# Altium integrated library Xilinx Spartan-3A FPGA.IntLib: 452 symbols (part 3 of 3)
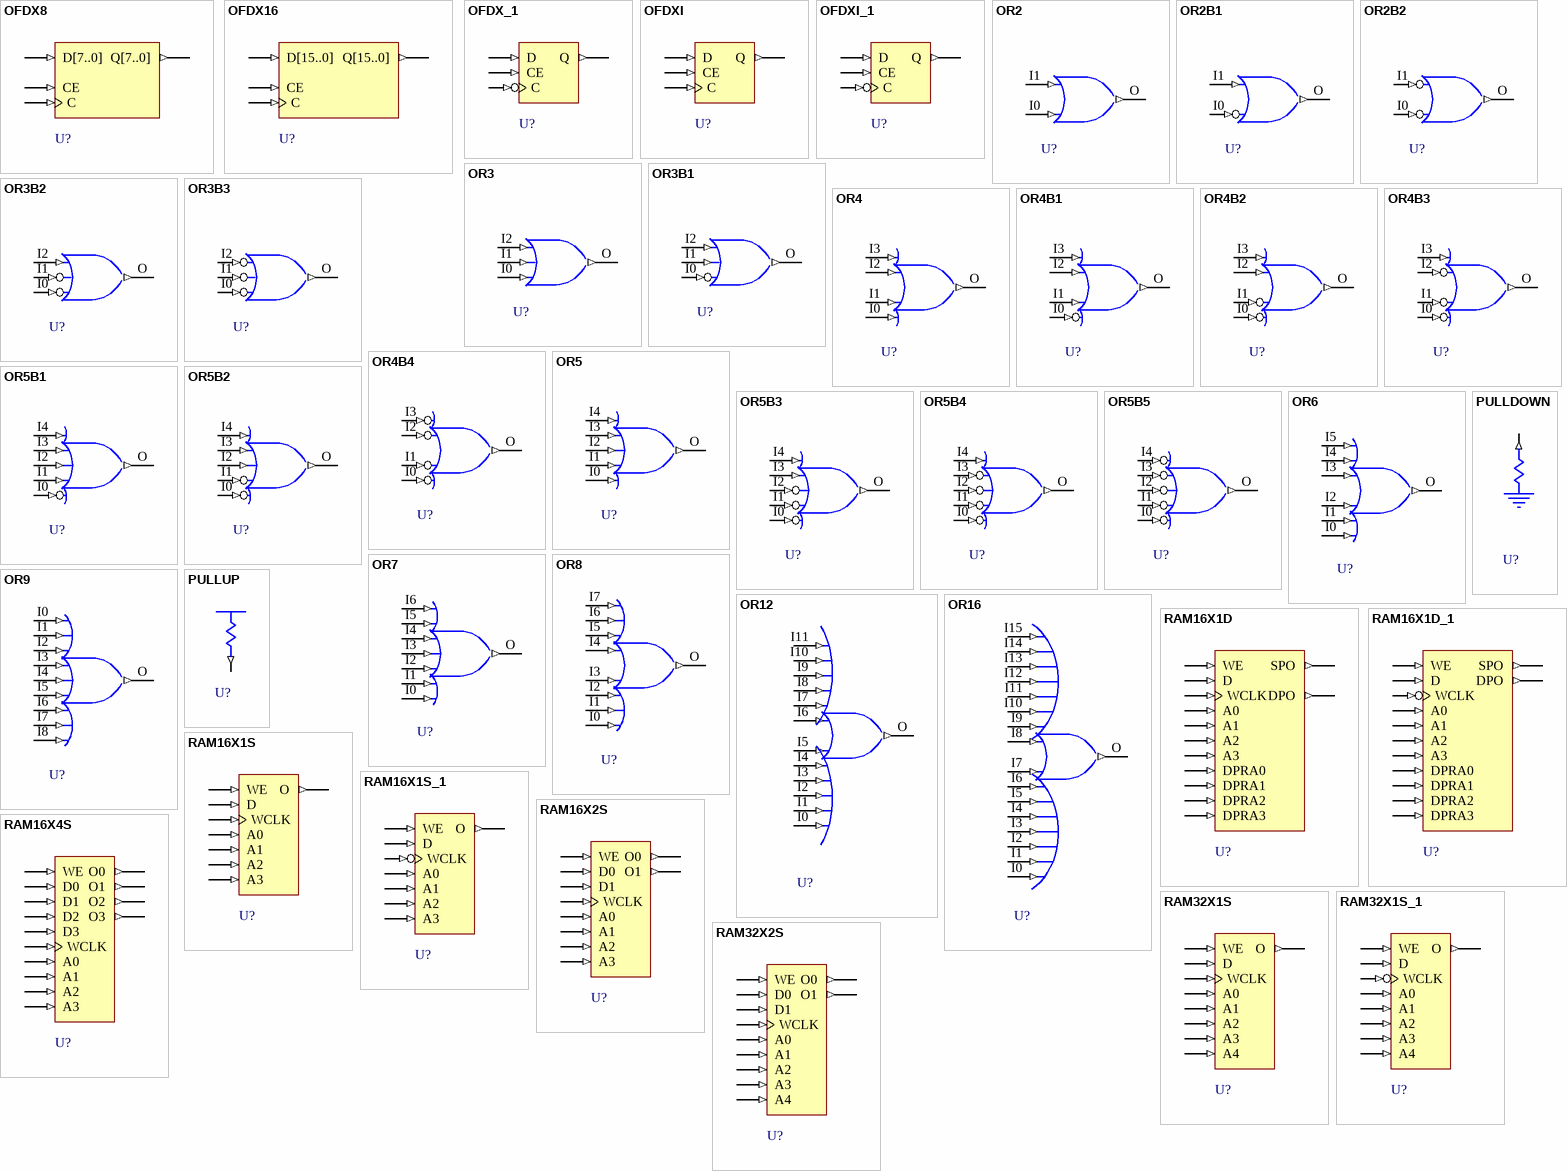
[diagram p13: symbols OFDX8 to RAM32X2S]

## RAM16X1D
designator U?
16-Deep by 1-Wide Static Dual Port Synchronous RAM; FPGAVendor: Xilinx; Published: 12-Jan-2007; Publisher: Altium Limited; HelpURL: http://toolbox.xilinx.com/docsan/xilinx82/books/docs/s3asc/s3asc.pdf
pins: A0 (in), A1 (in), A2 (in), A3 (in), D (in), DPO (out), DPRA0 (in), DPRA1 (in), DPRA2 (in), DPRA3 (in), SPO (out), WCLK (in), WE (in)

## RAM16X1D_1
designator U?
16-Deep by 1-Wide Static Dual Port Synchronous RAM with Negative-Edge Clock; FPGAVendor: Xilinx; Published: 12-Jan-2007; Publisher: Altium Limited; HelpURL: http://toolbox.xilinx.com/docsan/xilinx82/books/docs/s3asc/s3asc.pdf
pins: A0 (in), A1 (in), A2 (in), A3 (in), D (in), DPO (out), DPRA0 (in), DPRA1 (in), DPRA2 (in), DPRA3 (in), SPO (out), WCLK (in), WE (in)

## RAM16X1S
designator U?
16-Deep by 1-Wide Static Synchronous RAM; FPGAVendor: Xilinx; Published: 12-Jan-2007; Publisher: Altium Limited; HelpURL: http://toolbox.xilinx.com/docsan/xilinx82/books/docs/s3asc/s3asc.pdf
pins: A0 (in), A1 (in), A2 (in), A3 (in), D (in), O (out), WCLK (in), WE (in)

## RAM16X1S_1
designator U?
16-Deep by 1-Wide Static Synchronous RAM with Negative-Edge Clock; FPGAVendor: Xilinx; Published: 12-Jan-2007; Publisher: Altium Limited; HelpURL: http://toolbox.xilinx.com/docsan/xilinx82/books/docs/s3asc/s3asc.pdf
pins: A0 (in), A1 (in), A2 (in), A3 (in), D (in), O (out), WCLK (in), WE (in)

## RAM16X2S
designator U?
16-Deep by 2-Wide Static Synchronous RAM; FPGAVendor: Xilinx; Published: 12-Jan-2007; Publisher: Altium Limited; HelpURL: http://toolbox.xilinx.com/docsan/xilinx82/books/docs/s3asc/s3asc.pdf
pins: A0 (in), A1 (in), A2 (in), A3 (in), D0 (in), D1 (in), O0 (out), O1 (out), WCLK (in), WE (in)

## RAM16X4S
designator U?
16-Deep by 4-Wide Static Synchronous RAM; FPGAVendor: Xilinx; Published: 12-Jan-2007; Publisher: Altium Limited; HelpURL: http://toolbox.xilinx.com/docsan/xilinx82/books/docs/s3asc/s3asc.pdf
pins: A0 (in), A1 (in), A2 (in), A3 (in), D0 (in), D1 (in), D2 (in), D3 (in), O0 (out), O1 (out), O2 (out), O3 (out), WCLK (in), WE (in)

## RAM32X1S
designator U?
32-Deep by 1-Wide Static Synchronous RAM; FPGAVendor: Xilinx; Published: 12-Jan-2007; Publisher: Altium Limited; HelpURL: http://toolbox.xilinx.com/docsan/xilinx82/books/docs/s3asc/s3asc.pdf
pins: A0 (in), A1 (in), A2 (in), A3 (in), A4 (in), D (in), O (out), WCLK (in), WE (in)

## RAM32X1S_1
designator U?
32-Deep by 1-Wide Static Synchronous RAM with Negative-Edge Clock; FPGAVendor: Xilinx; Published: 12-Jan-2007; Publisher: Altium Limited; HelpURL: http://toolbox.xilinx.com/docsan/xilinx82/books/docs/s3asc/s3asc.pdf
pins: A0 (in), A1 (in), A2 (in), A3 (in), A4 (in), D (in), O (out), WCLK (in), WE (in)

## RAM32X2S
designator U?
32-Deep by 2-Wide Static Synchronous RAM; FPGAVendor: Xilinx; Published: 12-Jan-2007; Publisher: Altium Limited; HelpURL: http://toolbox.xilinx.com/docsan/xilinx82/books/docs/s3asc/s3asc.pdf
pins: A0 (in), A1 (in), A2 (in), A3 (in), A4 (in), D0 (in), D1 (in), O0 (out), O1 (out), WCLK (in), WE (in)

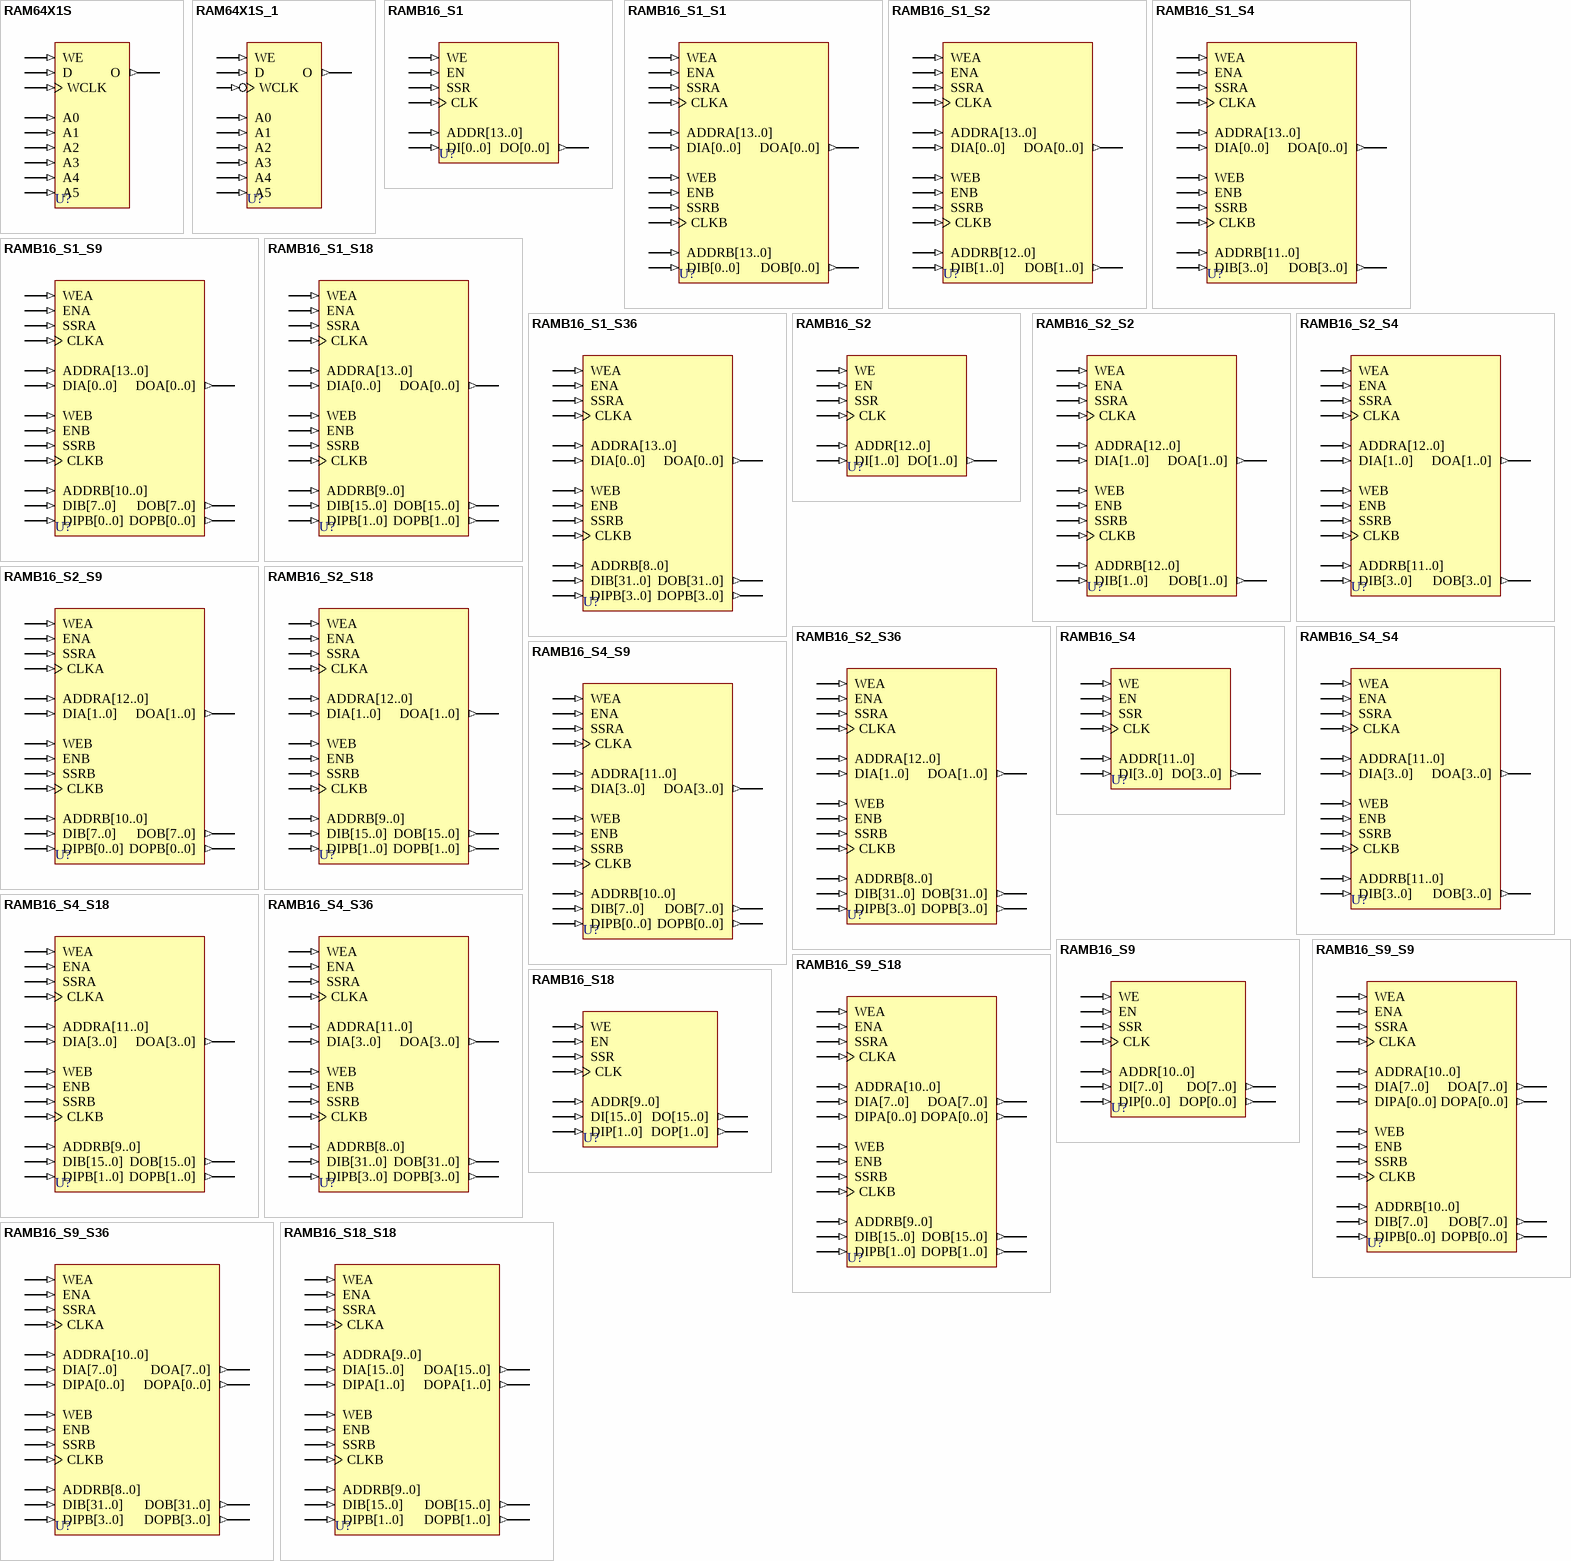
[diagram p9: symbols RAM64X1S to RAMB16_S18_S18]

## RAM64X1S
designator U?
64-Deep by 1-Wide Static Synchronous RAM; FPGAVendor: Xilinx; Published: 12-Jan-2007; Publisher: Altium Limited; HelpURL: http://toolbox.xilinx.com/docsan/xilinx82/books/docs/s3asc/s3asc.pdf
pins: A0 (in), A1 (in), A2 (in), A3 (in), A4 (in), A5 (in), D (in), O (out), WCLK (in), WE (in)

## RAM64X1S_1
designator U?
64-Deep by 1-Wide Static Synchronous RAM with Negative-Edge Clock; FPGAVendor: Xilinx; Published: 12-Jan-2007; Publisher: Altium Limited; HelpURL: http://toolbox.xilinx.com/docsan/xilinx82/books/docs/s3asc/s3asc.pdf
pins: A0 (in), A1 (in), A2 (in), A3 (in), A4 (in), A5 (in), D (in), O (out), WCLK (in), WE (in)

## RAMB16_S1
designator U?
16384-Bit Data Memory and 2048-Bit Parity Memory, Single-Port Synchronous Block RAM with Port Width 1 Bit.; FPGAVendor: Xilinx; Published: 12-Jan-2007; Publisher: Altium Limited; HelpURL: http://toolbox.xilinx.com/docsan/xilinx82/books/docs/s3asc/s3asc.pdf
pins: ADDR[13..0] (in), CLK (in), DI[0..0] (in), DO[0..0] (out), EN (in), SSR (in), WE (in)

## RAMB16_S1_S1
designator U?
16384-Bit Data Memory and 2048-Bit Parity Memory, Dual-Port Synchronous Block RAM with Port Widths configured to 1 Bit and 1 Bit.; FPGAVendor: Xilinx; Published: 12-Jan-2007; Publisher: Altium Limited; HelpURL: http://toolbox.xilinx.com/docsan/xilinx82/books/docs/s3asc/s3asc.pdf
pins: ADDRA[13..0] (in), ADDRB[13..0] (in), CLKA (in), CLKB (in), DIA[0..0] (in), DIB[0..0] (in), DOA[0..0] (out), DOB[0..0] (out), ENA (in), ENB (in), SSRA (in), SSRB (in), WEA (in), WEB (in)

## RAMB16_S1_S2
designator U?
16384-Bit Data Memory and 2048-Bit Parity Memory, Dual-Port Synchronous Block RAM with Port Widths configured to 1 Bit and 2 Bits.; FPGAVendor: Xilinx; Published: 12-Jan-2007; Publisher: Altium Limited; HelpURL: http://toolbox.xilinx.com/docsan/xilinx82/books/docs/s3asc/s3asc.pdf
pins: ADDRA[13..0] (in), ADDRB[12..0] (in), CLKA (in), CLKB (in), DIA[0..0] (in), DIB[1..0] (in), DOA[0..0] (out), DOB[1..0] (out), ENA (in), ENB (in), SSRA (in), SSRB (in), WEA (in), WEB (in)

## RAMB16_S1_S4
designator U?
16384-Bit Data Memory and 2048-Bit Parity Memory, Dual-Port Synchronous Block RAM with Port Widths configured to 1 Bit and 4 Bits.; FPGAVendor: Xilinx; Published: 12-Jan-2007; Publisher: Altium Limited; HelpURL: http://toolbox.xilinx.com/docsan/xilinx82/books/docs/s3asc/s3asc.pdf
pins: ADDRA[13..0] (in), ADDRB[11..0] (in), CLKA (in), CLKB (in), DIA[0..0] (in), DIB[3..0] (in), DOA[0..0] (out), DOB[3..0] (out), ENA (in), ENB (in), SSRA (in), SSRB (in), WEA (in), WEB (in)

## RAMB16_S1_S9
designator U?
16384-Bit Data Memory and 2048-Bit Parity Memory, Dual-Port Synchronous Block RAM with Port Widths configured to 1 Bit and 9 Bits.; FPGAVendor: Xilinx; Published: 12-Jan-2007; Publisher: Altium Limited; HelpURL: http://toolbox.xilinx.com/docsan/xilinx82/books/docs/s3asc/s3asc.pdf
pins: ADDRA[13..0] (in), ADDRB[10..0] (in), CLKA (in), CLKB (in), DIA[0..0] (in), DIB[7..0] (in), DIPB[0..0] (in), DOA[0..0] (out), DOB[7..0] (out), DOPB[0..0] (out), ENA (in), ENB (in), SSRA (in), SSRB (in), WEA (in), WEB (in)

## RAMB16_S1_S18
designator U?
16384-Bit Data Memory and 2048-Bit Parity Memory, Dual-Port Synchronous Block RAM with Port Widths configured to 1 Bit and 18 Bits.; FPGAVendor: Xilinx; Published: 12-Jan-2007; Publisher: Altium Limited; HelpURL: http://toolbox.xilinx.com/docsan/xilinx82/books/docs/s3asc/s3asc.pdf
pins: ADDRA[13..0] (in), ADDRB[9..0] (in), CLKA (in), CLKB (in), DIA[0..0] (in), DIB[15..0] (in), DIPB[1..0] (in), DOA[0..0] (out), DOB[15..0] (out), DOPB[1..0] (out), ENA (in), ENB (in), SSRA (in), SSRB (in), WEA (in), WEB (in)

## RAMB16_S1_S36
designator U?
16384-Bit Data Memory and 2048-Bit Parity Memory, Dual-Port Synchronous Block RAM with Port Widths configured to 1 Bit and 36 Bits.; FPGAVendor: Xilinx; Published: 12-Jan-2007; Publisher: Altium Limited; HelpURL: http://toolbox.xilinx.com/docsan/xilinx82/books/docs/s3asc/s3asc.pdf
pins: ADDRA[13..0] (in), ADDRB[8..0] (in), CLKA (in), CLKB (in), DIA[0..0] (in), DIB[31..0] (in), DIPB[3..0] (in), DOA[0..0] (out), DOB[31..0] (out), DOPB[3..0] (out), ENA (in), ENB (in), SSRA (in), SSRB (in), WEA (in), WEB (in)

## RAMB16_S2
designator U?
16384-Bit Data Memory and 2048-Bit Parity Memory, Single-Port Synchronous Block RAM with Port Width 2 Bits.; FPGAVendor: Xilinx; Published: 12-Jan-2007; Publisher: Altium Limited; HelpURL: http://toolbox.xilinx.com/docsan/xilinx82/books/docs/s3asc/s3asc.pdf
pins: ADDR[12..0] (in), CLK (in), DI[1..0] (in), DO[1..0] (out), EN (in), SSR (in), WE (in)

## RAMB16_S2_S2
designator U?
16384-Bit Data Memory and 2048-Bit Parity Memory, Dual-Port Synchronous Block RAM with Port Widths configured to 2 Bits and 2 Bits.; FPGAVendor: Xilinx; Published: 12-Jan-2007; Publisher: Altium Limited; HelpURL: http://toolbox.xilinx.com/docsan/xilinx82/books/docs/s3asc/s3asc.pdf
pins: ADDRA[12..0] (in), ADDRB[12..0] (in), CLKA (in), CLKB (in), DIA[1..0] (in), DIB[1..0] (in), DOA[1..0] (out), DOB[1..0] (out), ENA (in), ENB (in), SSRA (in), SSRB (in), WEA (in), WEB (in)

## RAMB16_S2_S4
designator U?
16384-Bit Data Memory and 2048-Bit Parity Memory, Dual-Port Synchronous Block RAM with Port Widths configured to 2 Bits and 4 Bits.; FPGAVendor: Xilinx; Published: 12-Jan-2007; Publisher: Altium Limited; HelpURL: http://toolbox.xilinx.com/docsan/xilinx82/books/docs/s3asc/s3asc.pdf
pins: ADDRA[12..0] (in), ADDRB[11..0] (in), CLKA (in), CLKB (in), DIA[1..0] (in), DIB[3..0] (in), DOA[1..0] (out), DOB[3..0] (out), ENA (in), ENB (in), SSRA (in), SSRB (in), WEA (in), WEB (in)

## RAMB16_S2_S9
designator U?
16384-Bit Data Memory and 2048-Bit Parity Memory, Dual-Port Synchronous Block RAM with Port Widths configured to 2 Bits and 9 Bits.; FPGAVendor: Xilinx; Published: 12-Jan-2007; Publisher: Altium Limited; HelpURL: http://toolbox.xilinx.com/docsan/xilinx82/books/docs/s3asc/s3asc.pdf
pins: ADDRA[12..0] (in), ADDRB[10..0] (in), CLKA (in), CLKB (in), DIA[1..0] (in), DIB[7..0] (in), DIPB[0..0] (in), DOA[1..0] (out), DOB[7..0] (out), DOPB[0..0] (out), ENA (in), ENB (in), SSRA (in), SSRB (in), WEA (in), WEB (in)

## RAMB16_S2_S18
designator U?
16384-Bit Data Memory and 2048-Bit Parity Memory, Dual-Port Synchronous Block RAM with Port Widths configured to 2 Bits and 18 Bits.; FPGAVendor: Xilinx; Published: 12-Jan-2007; Publisher: Altium Limited; HelpURL: http://toolbox.xilinx.com/docsan/xilinx82/books/docs/s3asc/s3asc.pdf
pins: ADDRA[12..0] (in), ADDRB[9..0] (in), CLKA (in), CLKB (in), DIA[1..0] (in), DIB[15..0] (in), DIPB[1..0] (in), DOA[1..0] (out), DOB[15..0] (out), DOPB[1..0] (out), ENA (in), ENB (in), SSRA (in), SSRB (in), WEA (in), WEB (in)

## RAMB16_S2_S36
designator U?
16384-Bit Data Memory and 2048-Bit Parity Memory, Dual-Port Synchronous Block RAM with Port Widths configured to 2 Bits and 36 Bits.; FPGAVendor: Xilinx; Published: 12-Jan-2007; Publisher: Altium Limited; HelpURL: http://toolbox.xilinx.com/docsan/xilinx82/books/docs/s3asc/s3asc.pdf
pins: ADDRA[12..0] (in), ADDRB[8..0] (in), CLKA (in), CLKB (in), DIA[1..0] (in), DIB[31..0] (in), DIPB[3..0] (in), DOA[1..0] (out), DOB[31..0] (out), DOPB[3..0] (out), ENA (in), ENB (in), SSRA (in), SSRB (in), WEA (in), WEB (in)

## RAMB16_S4
designator U?
16384-Bit Data Memory and 2048-Bit Parity Memory, Single-Port Synchronous Block RAM with Port Width 4 Bits.; FPGAVendor: Xilinx; Published: 12-Jan-2007; Publisher: Altium Limited; HelpURL: http://toolbox.xilinx.com/docsan/xilinx82/books/docs/s3asc/s3asc.pdf
pins: ADDR[11..0] (in), CLK (in), DI[3..0] (in), DO[3..0] (out), EN (in), SSR (in), WE (in)

## RAMB16_S4_S4
designator U?
16384-Bit Data Memory and 2048-Bit Parity Memory, Dual-Port Synchronous Block RAM with Port Widths configured to 4 Bits and 4 Bits.; FPGAVendor: Xilinx; Published: 12-Jan-2007; Publisher: Altium Limited; HelpURL: http://toolbox.xilinx.com/docsan/xilinx82/books/docs/s3asc/s3asc.pdf
pins: ADDRA[11..0] (in), ADDRB[11..0] (in), CLKA (in), CLKB (in), DIA[3..0] (in), DIB[3..0] (in), DOA[3..0] (out), DOB[3..0] (out), ENA (in), ENB (in), SSRA (in), SSRB (in), WEA (in), WEB (in)

## RAMB16_S4_S9
designator U?
16384-Bit Data Memory and 2048-Bit Parity Memory, Dual-Port Synchronous Block RAM with Port Widths configured to 4 Bits and 9 Bits.; FPGAVendor: Xilinx; Published: 12-Jan-2007; Publisher: Altium Limited; HelpURL: http://toolbox.xilinx.com/docsan/xilinx82/books/docs/s3asc/s3asc.pdf
pins: ADDRA[11..0] (in), ADDRB[10..0] (in), CLKA (in), CLKB (in), DIA[3..0] (in), DIB[7..0] (in), DIPB[0..0] (in), DOA[3..0] (out), DOB[7..0] (out), DOPB[0..0] (out), ENA (in), ENB (in), SSRA (in), SSRB (in), WEA (in), WEB (in)

## RAMB16_S4_S18
designator U?
16384-Bit Data Memory and 2048-Bit Parity Memory, Dual-Port Synchronous Block RAM with Port Widths configured to 4 Bits and 18 Bits.; FPGAVendor: Xilinx; Published: 12-Jan-2007; Publisher: Altium Limited; HelpURL: http://toolbox.xilinx.com/docsan/xilinx82/books/docs/s3asc/s3asc.pdf
pins: ADDRA[11..0] (in), ADDRB[9..0] (in), CLKA (in), CLKB (in), DIA[3..0] (in), DIB[15..0] (in), DIPB[1..0] (in), DOA[3..0] (out), DOB[15..0] (out), DOPB[1..0] (out), ENA (in), ENB (in), SSRA (in), SSRB (in), WEA (in), WEB (in)

## RAMB16_S4_S36
designator U?
16384-Bit Data Memory and 2048-Bit Parity Memory, Dual-Port Synchronous Block RAM with Port Widths configured to 4 Bits and 36 Bits.; FPGAVendor: Xilinx; Published: 12-Jan-2007; Publisher: Altium Limited; HelpURL: http://toolbox.xilinx.com/docsan/xilinx82/books/docs/s3asc/s3asc.pdf
pins: ADDRA[11..0] (in), ADDRB[8..0] (in), CLKA (in), CLKB (in), DIA[3..0] (in), DIB[31..0] (in), DIPB[3..0] (in), DOA[3..0] (out), DOB[31..0] (out), DOPB[3..0] (out), ENA (in), ENB (in), SSRA (in), SSRB (in), WEA (in), WEB (in)

## RAMB16_S9
designator U?
16384-Bit Data Memory and 2048-Bit Parity Memory, Single-Port Synchronous Block RAM with Port Width 9 Bits.; FPGAVendor: Xilinx; Published: 12-Jan-2007; Publisher: Altium Limited; HelpURL: http://toolbox.xilinx.com/docsan/xilinx82/books/docs/s3asc/s3asc.pdf
pins: ADDR[10..0] (in), CLK (in), DI[7..0] (in), DIP[0..0] (in), DO[7..0] (out), DOP[0..0] (out), EN (in), SSR (in), WE (in)

## RAMB16_S9_S9
designator U?
16384-Bit Data Memory and 2048-Bit Parity Memory, Dual-Port Synchronous Block RAM with Port Widths configured to 9 Bits and 9 Bits.; FPGAVendor: Xilinx; Published: 12-Jan-2007; Publisher: Altium Limited; HelpURL: http://toolbox.xilinx.com/docsan/xilinx82/books/docs/s3asc/s3asc.pdf
pins: ADDRA[10..0] (in), ADDRB[10..0] (in), CLKA (in), CLKB (in), DIA[7..0] (in), DIB[7..0] (in), DIPA[0..0] (in), DIPB[0..0] (in), DOA[7..0] (out), DOB[7..0] (out), DOPA[0..0] (out), DOPB[0..0] (out), ENA (in), ENB (in), SSRA (in), SSRB (in), WEA (in), WEB (in)

## RAMB16_S9_S18
designator U?
16384-Bit Data Memory and 2048-Bit Parity Memory, Dual-Port Synchronous Block RAM with Port Widths configured to 9 Bits and 18 Bits.; FPGAVendor: Xilinx; Published: 12-Jan-2007; Publisher: Altium Limited; HelpURL: http://toolbox.xilinx.com/docsan/xilinx82/books/docs/s3asc/s3asc.pdf
pins: ADDRA[10..0] (in), ADDRB[9..0] (in), CLKA (in), CLKB (in), DIA[7..0] (in), DIB[15..0] (in), DIPA[0..0] (in), DIPB[1..0] (in), DOA[7..0] (out), DOB[15..0] (out), DOPA[0..0] (out), DOPB[1..0] (out), ENA (in), ENB (in), SSRA (in), SSRB (in), WEA (in), WEB (in)

## RAMB16_S9_S36
designator U?
16384-Bit Data Memory and 2048-Bit Parity Memory, Dual-Port Synchronous Block RAM with Port Widths configured to 9 Bits and 36 Bits.; FPGAVendor: Xilinx; Published: 12-Jan-2007; Publisher: Altium Limited; HelpURL: http://toolbox.xilinx.com/docsan/xilinx82/books/docs/s3asc/s3asc.pdf
pins: ADDRA[10..0] (in), ADDRB[8..0] (in), CLKA (in), CLKB (in), DIA[7..0] (in), DIB[31..0] (in), DIPA[0..0] (in), DIPB[3..0] (in), DOA[7..0] (out), DOB[31..0] (out), DOPA[0..0] (out), DOPB[3..0] (out), ENA (in), ENB (in), SSRA (in), SSRB (in), WEA (in), WEB (in)

## RAMB16_S18
designator U?
16384-Bit Data Memory and 2048-Bit Parity Memory, Single-Port Synchronous Block RAM with Port Width 18 Bits.; FPGAVendor: Xilinx; Published: 12-Jan-2007; Publisher: Altium Limited; HelpURL: http://toolbox.xilinx.com/docsan/xilinx82/books/docs/s3asc/s3asc.pdf
pins: ADDR[9..0] (in), CLK (in), DI[15..0] (in), DIP[1..0] (in), DO[15..0] (out), DOP[1..0] (out), EN (in), SSR (in), WE (in)

## RAMB16_S18_S18
designator U?
16384-Bit Data Memory and 2048-Bit Parity Memory, Dual-Port Synchronous Block RAM with Port Widths configured to 18 Bits and 18 Bits.; FPGAVendor: Xilinx; Published: 12-Jan-2007; Publisher: Altium Limited; HelpURL: http://toolbox.xilinx.com/docsan/xilinx82/books/docs/s3asc/s3asc.pdf
pins: ADDRA[9..0] (in), ADDRB[9..0] (in), CLKA (in), CLKB (in), DIA[15..0] (in), DIB[15..0] (in), DIPA[1..0] (in), DIPB[1..0] (in), DOA[15..0] (out), DOB[15..0] (out), DOPA[1..0] (out), DOPB[1..0] (out), ENA (in), ENB (in), SSRA (in), SSRB (in), WEA (in), WEB (in)

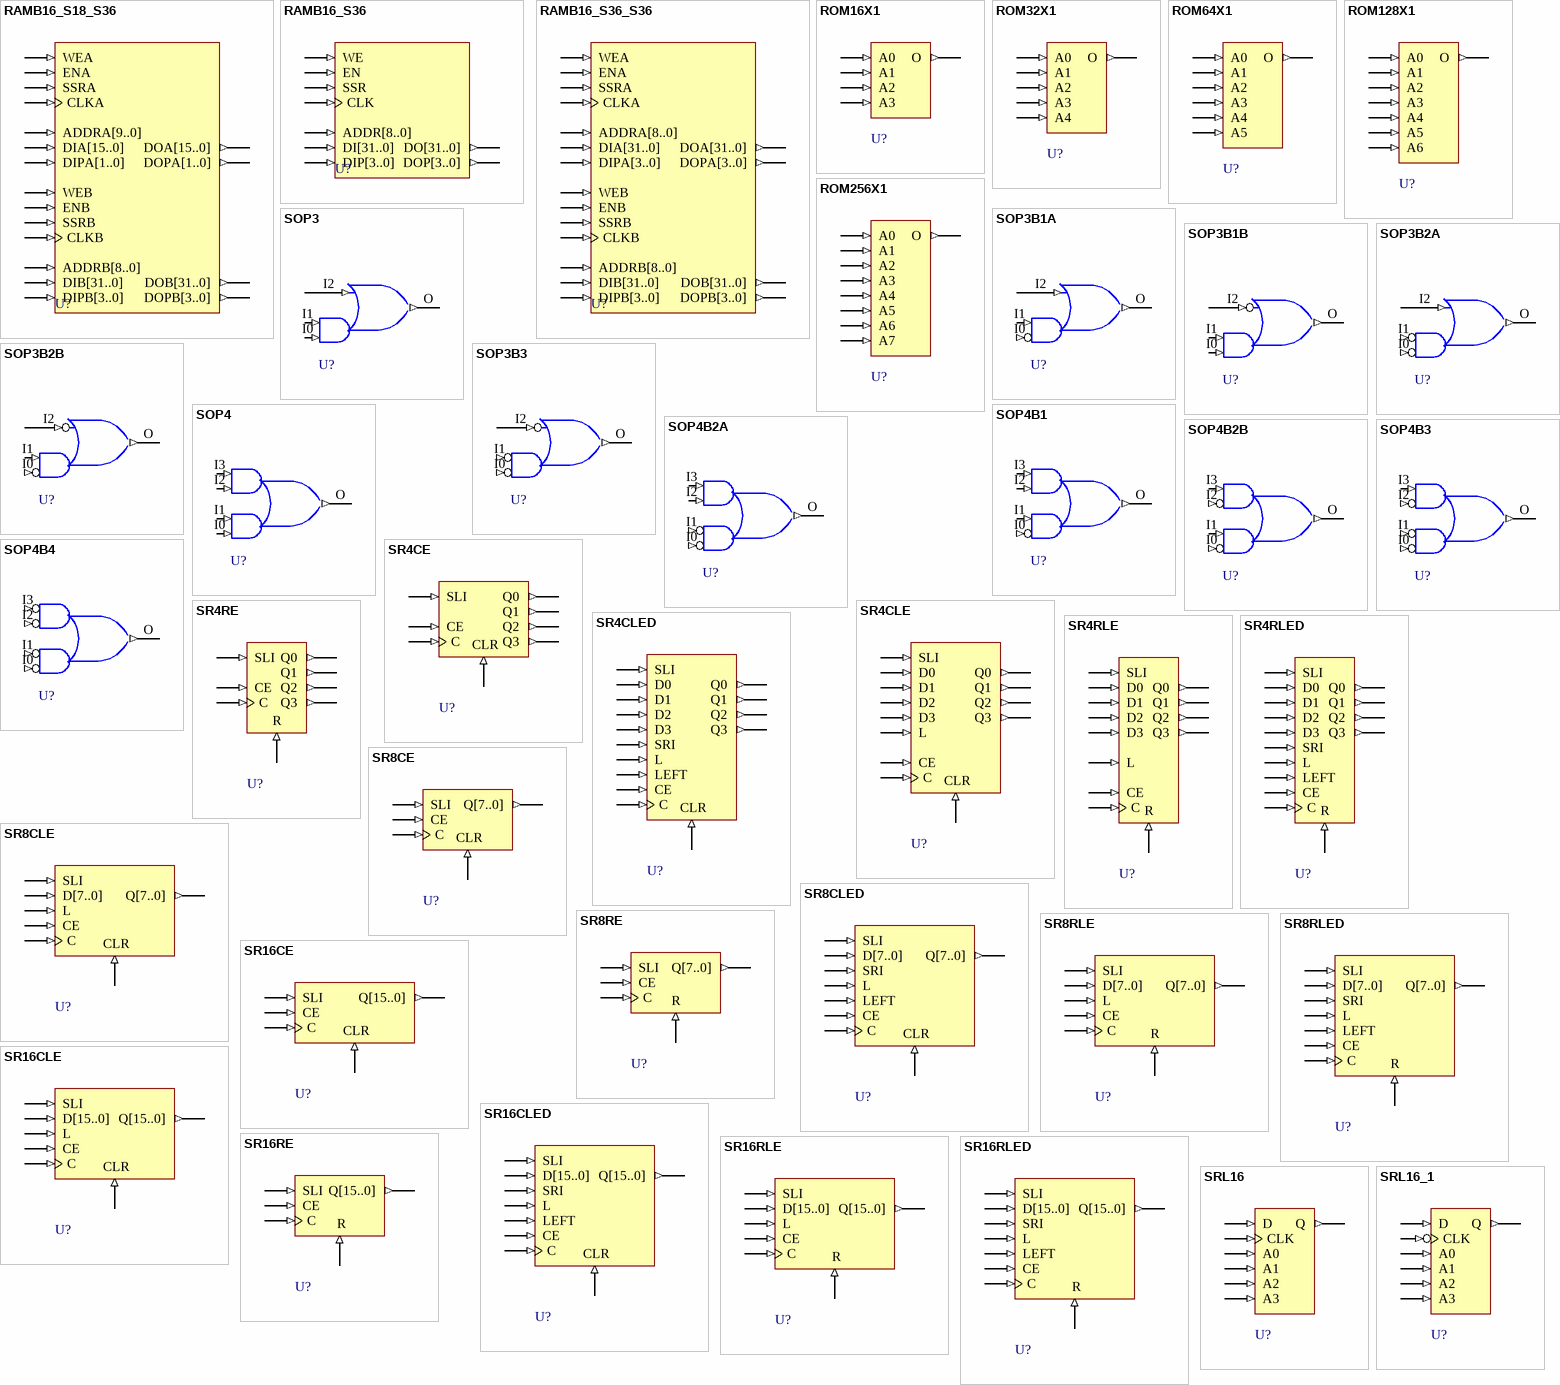
[diagram p10: symbols RAMB16_S18_S36 to SRL16_1]

## RAMB16_S18_S36
designator U?
16384-Bit Data Memory and 2048-Bit Parity Memory, Dual-Port Synchronous Block RAM with Port Widths configured to 18 Bits and 36 Bits.; FPGAVendor: Xilinx; Published: 12-Jan-2007; Publisher: Altium Limited; HelpURL: http://toolbox.xilinx.com/docsan/xilinx82/books/docs/s3asc/s3asc.pdf
pins: ADDRA[9..0] (in), ADDRB[8..0] (in), CLKA (in), CLKB (in), DIA[15..0] (in), DIB[31..0] (in), DIPA[1..0] (in), DIPB[3..0] (in), DOA[15..0] (out), DOB[31..0] (out), DOPA[1..0] (out), DOPB[3..0] (out), ENA (in), ENB (in), SSRA (in), SSRB (in), WEA (in), WEB (in)

## RAMB16_S36
designator U?
16384-Bit Data Memory and 2048-Bit Parity Memory, Single-Port Synchronous Block RAM with Port Width 36 Bits.; FPGAVendor: Xilinx; Published: 12-Jan-2007; Publisher: Altium Limited; HelpURL: http://toolbox.xilinx.com/docsan/xilinx82/books/docs/s3asc/s3asc.pdf
pins: ADDR[8..0] (in), CLK (in), DI[31..0] (in), DIP[3..0] (in), DO[31..0] (out), DOP[3..0] (out), EN (in), SSR (in), WE (in)

## RAMB16_S36_S36
designator U?
16384-Bit Data Memory and 2048-Bit Parity Memory, Dual-Port Synchronous Block RAM with Port Widths configured to 36 Bits and 36 Bits.; FPGAVendor: Xilinx; Published: 12-Jan-2007; Publisher: Altium Limited; HelpURL: http://toolbox.xilinx.com/docsan/xilinx82/books/docs/s3asc/s3asc.pdf
pins: ADDRA[8..0] (in), ADDRB[8..0] (in), CLKA (in), CLKB (in), DIA[31..0] (in), DIB[31..0] (in), DIPA[3..0] (in), DIPB[3..0] (in), DOA[31..0] (out), DOB[31..0] (out), DOPA[3..0] (out), DOPB[3..0] (out), ENA (in), ENB (in), SSRA (in), SSRB (in), WEA (in), WEB (in)

## ROM16X1
designator U?
16-Deep by 1-Wide ROM; FPGAVendor: Xilinx; Published: 12-Jan-2007; Publisher: Altium Limited; HelpURL: http://toolbox.xilinx.com/docsan/xilinx82/books/docs/s3asc/s3asc.pdf
pins: A0 (in), A1 (in), A2 (in), A3 (in), O (out)

## ROM32X1
designator U?
32-Deep by 1-Wide ROM; FPGAVendor: Xilinx; Published: 12-Jan-2007; Publisher: Altium Limited; HelpURL: http://toolbox.xilinx.com/docsan/xilinx82/books/docs/s3asc/s3asc.pdf
pins: A0 (in), A1 (in), A2 (in), A3 (in), A4 (in), O (out)

## ROM64X1
designator U?
64-Deep by 1-Wide ROM; FPGAVendor: Xilinx; Published: 12-Jan-2007; Publisher: Altium Limited; HelpURL: http://toolbox.xilinx.com/docsan/xilinx82/books/docs/s3asc/s3asc.pdf
pins: A0 (in), A1 (in), A2 (in), A3 (in), A4 (in), A5 (in), O (out)

## ROM128X1
designator U?
128-Deep by 1-Wide ROM; FPGAVendor: Xilinx; Published: 12-Jan-2007; Publisher: Altium Limited; HelpURL: http://toolbox.xilinx.com/docsan/xilinx82/books/docs/s3asc/s3asc.pdf
pins: A0 (in), A1 (in), A2 (in), A3 (in), A4 (in), A5 (in), A6 (in), O (out)

## ROM256X1
designator U?
256-Deep by 1-Wide ROM; FPGAVendor: Xilinx; Published: 12-Jan-2007; Publisher: Altium Limited; HelpURL: http://toolbox.xilinx.com/docsan/xilinx82/books/docs/s3asc/s3asc.pdf
pins: A0 (in), A1 (in), A2 (in), A3 (in), A4 (in), A5 (in), A6 (in), A7 (in), O (out)

## SOP3
designator U?
3-Input Sum-of-Products; FPGAVendor: Xilinx; Published: 12-Jan-2007; Publisher: Altium Limited; HelpURL: http://toolbox.xilinx.com/docsan/xilinx82/books/docs/s3asc/s3asc.pdf
pins: I0 (in), I1 (in), I2 (in), O (out)

## SOP3B1A
designator U?
3-Input Sum-of-Products with One AND Input Inverted; FPGAVendor: Xilinx; Published: 12-Jan-2007; Publisher: Altium Limited; HelpURL: http://toolbox.xilinx.com/docsan/xilinx82/books/docs/s3asc/s3asc.pdf
pins: I0 (in), I1 (in), I2 (in), O (out)

## SOP3B1B
designator U?
3-Input Sum-of-Products with One OR Input Inverted; FPGAVendor: Xilinx; Published: 12-Jan-2007; Publisher: Altium Limited; HelpURL: http://toolbox.xilinx.com/docsan/xilinx82/books/docs/s3asc/s3asc.pdf
pins: I0 (in), I1 (in), I2 (in), O (out)

## SOP3B2A
designator U?
3-Input Sum-of-Products with Two AND Inputs Inverted; FPGAVendor: Xilinx; Published: 12-Jan-2007; Publisher: Altium Limited; HelpURL: http://toolbox.xilinx.com/docsan/xilinx82/books/docs/s3asc/s3asc.pdf
pins: I0 (in), I1 (in), I2 (in), O (out)

## SOP3B2B
designator U?
3-Input Sum-of-Products with One OR and One AND Input Inverted; FPGAVendor: Xilinx; Published: 12-Jan-2007; Publisher: Altium Limited; HelpURL: http://toolbox.xilinx.com/docsan/xilinx82/books/docs/s3asc/s3asc.pdf
pins: I0 (in), I1 (in), I2 (in), O (out)

## SOP3B3
designator U?
3-Input Sum-of-Products with All Inputs Inverted; FPGAVendor: Xilinx; Published: 12-Jan-2007; Publisher: Altium Limited; HelpURL: http://toolbox.xilinx.com/docsan/xilinx82/books/docs/s3asc/s3asc.pdf
pins: I0 (in), I1 (in), I2 (in), O (out)

## SOP4
designator U?
4-Input Sum-of-Products; FPGAVendor: Xilinx; Published: 12-Jan-2007; Publisher: Altium Limited; HelpURL: http://toolbox.xilinx.com/docsan/xilinx82/books/docs/s3asc/s3asc.pdf
pins: I0 (in), I1 (in), I2 (in), I3 (in), O (out)

## SOP4B1
designator U?
4-Input Sum-of-Products with One AND Input Inverted; FPGAVendor: Xilinx; Published: 12-Jan-2007; Publisher: Altium Limited; HelpURL: http://toolbox.xilinx.com/docsan/xilinx82/books/docs/s3asc/s3asc.pdf
pins: I0 (in), I1 (in), I2 (in), I3 (in), O (out)

## SOP4B2A
designator U?
4-Input Sum-of-Products with Both Inputs on One AND Gate Inverted; FPGAVendor: Xilinx; Published: 12-Jan-2007; Publisher: Altium Limited; HelpURL: http://toolbox.xilinx.com/docsan/xilinx82/books/docs/s3asc/s3asc.pdf
pins: I0 (in), I1 (in), I2 (in), I3 (in), O (out)

## SOP4B2B
designator U?
4-Input Sum-of-Products with One AND Input on Each AND Gate Inverted; FPGAVendor: Xilinx; Published: 12-Jan-2007; Publisher: Altium Limited; HelpURL: http://toolbox.xilinx.com/docsan/xilinx82/books/docs/s3asc/s3asc.pdf
pins: I0 (in), I1 (in), I2 (in), I3 (in), O (out)

## SOP4B3
designator U?
4-Input Sum-of-Products with Three Inputs Inverted; FPGAVendor: Xilinx; Published: 12-Jan-2007; Publisher: Altium Limited; HelpURL: http://toolbox.xilinx.com/docsan/xilinx82/books/docs/s3asc/s3asc.pdf
pins: I0 (in), I1 (in), I2 (in), I3 (in), O (out)

## SOP4B4
designator U?
4-Input Sum-of-Products with All Inputs Inverted; FPGAVendor: Xilinx; Published: 12-Jan-2007; Publisher: Altium Limited; HelpURL: http://toolbox.xilinx.com/docsan/xilinx82/books/docs/s3asc/s3asc.pdf
pins: I0 (in), I1 (in), I2 (in), I3 (in), O (out)

## SR4CE
designator U?
4-Bit Serial-In Parallel-Out Shift Register with Clock Enable and Asynchronous Clear; FPGAVendor: Xilinx; Published: 12-Jan-2007; Publisher: Altium Limited; HelpURL: http://toolbox.xilinx.com/docsan/xilinx82/books/docs/s3asc/s3asc.pdf
pins: C (in), CE (in), CLR (in), Q0 (out), Q1 (out), Q2 (out), Q3 (out), SLI (in)

## SR4CLE
designator U?
4-Bit Loadable Serial/Parallel-In Parallel-Out Shift Register with Clock Enable and Asynchronous Clear; FPGAVendor: Xilinx; Published: 12-Jan-2007; Publisher: Altium Limited; HelpURL: http://toolbox.xilinx.com/docsan/xilinx82/books/docs/s3asc/s3asc.pdf
pins: C (in), CE (in), CLR (in), D0 (in), D1 (in), D2 (in), D3 (in), L (in), Q0 (out), Q1 (out), Q2 (out), Q3 (out), SLI (in)

## SR4CLED
designator U?
4-Bit Shift Register with Clock Enable and Asynchronous Clear; FPGAVendor: Xilinx; Published: 12-Jan-2007; Publisher: Altium Limited; HelpURL: http://toolbox.xilinx.com/docsan/xilinx82/books/docs/s3asc/s3asc.pdf
pins: C (in), CE (in), CLR (in), D0 (in), D1 (in), D2 (in), D3 (in), L (in), LEFT (in), Q0 (out), Q1 (out), Q2 (out), Q3 (out), SLI (in), SRI (in)

## SR4RE
designator U?
4-Bit Serial-In Parallel-Out Shift Register with Clock Enable and Synchronous Reset; FPGAVendor: Xilinx; Published: 12-Jan-2007; Publisher: Altium Limited; HelpURL: http://toolbox.xilinx.com/docsan/xilinx82/books/docs/s3asc/s3asc.pdf
pins: C (in), CE (in), Q0 (out), Q1 (out), Q2 (out), Q3 (out), R (in), SLI (in)

## SR4RLE
designator U?
4-Bit Loadable Serial/Parallel-In Parallel-Out Shift Register with Clock Enable and Synchronous Reset; FPGAVendor: Xilinx; Published: 12-Jan-2007; Publisher: Altium Limited; HelpURL: http://toolbox.xilinx.com/docsan/xilinx82/books/docs/s3asc/s3asc.pdf
pins: C (in), CE (in), D0 (in), D1 (in), D2 (in), D3 (in), L (in), Q0 (out), Q1 (out), Q2 (out), Q3 (out), R (in), SLI (in)

## SR4RLED
designator U?
4-Bit Shift Register with Clock Enable and Synchronous Reset; FPGAVendor: Xilinx; Published: 12-Jan-2007; Publisher: Altium Limited; HelpURL: http://toolbox.xilinx.com/docsan/xilinx82/books/docs/s3asc/s3asc.pdf
pins: C (in), CE (in), D0 (in), D1 (in), D2 (in), D3 (in), L (in), LEFT (in), Q0 (out), Q1 (out), Q2 (out), Q3 (out), R (in), SLI (in), SRI (in)

## SR8CE
designator U?
8-Bit Serial-In Parallel-Out Shift Register with Clock Enable and Asynchronous Clear; FPGAVendor: Xilinx; Published: 12-Jan-2007; Publisher: Altium Limited; HelpURL: http://toolbox.xilinx.com/docsan/xilinx82/books/docs/s3asc/s3asc.pdf
pins: C (in), CE (in), CLR (in), Q[7..0] (out), SLI (in)

## SR8CLE
designator U?
8-Bit Loadable Serial/Parallel-In Parallel-Out Shift Register with Clock Enable and Asynchronous Clear; FPGAVendor: Xilinx; Published: 12-Jan-2007; Publisher: Altium Limited; HelpURL: http://toolbox.xilinx.com/docsan/xilinx82/books/docs/s3asc/s3asc.pdf
pins: C (in), CE (in), CLR (in), D[7..0] (in), L (in), Q[7..0] (out), SLI (in)

## SR8CLED
designator U?
8-Bit Shift Register with Clock Enable and Asynchronous Clear; FPGAVendor: Xilinx; Published: 12-Jan-2007; Publisher: Altium Limited; HelpURL: http://toolbox.xilinx.com/docsan/xilinx82/books/docs/s3asc/s3asc.pdf
pins: C (in), CE (in), CLR (in), D[7..0] (in), L (in), LEFT (in), Q[7..0] (out), SLI (in), SRI (in)

## SR8RE
designator U?
8-Bit Serial-In Parallel-Out Shift Register with Clock Enable and Synchronous Reset; FPGAVendor: Xilinx; Published: 12-Jan-2007; Publisher: Altium Limited; HelpURL: http://toolbox.xilinx.com/docsan/xilinx82/books/docs/s3asc/s3asc.pdf
pins: C (in), CE (in), Q[7..0] (out), R (in), SLI (in)

## SR8RLE
designator U?
8-Bit Loadable Serial/Parallel-In Parallel-Out Shift Register with Clock Enable and Synchronous Reset; FPGAVendor: Xilinx; Published: 12-Jan-2007; Publisher: Altium Limited; HelpURL: http://toolbox.xilinx.com/docsan/xilinx82/books/docs/s3asc/s3asc.pdf
pins: C (in), CE (in), D[7..0] (in), L (in), Q[7..0] (out), R (in), SLI (in)

## SR8RLED
designator U?
8-Bit Shift Register with Clock Enable and Synchronous Reset; FPGAVendor: Xilinx; Published: 12-Jan-2007; Publisher: Altium Limited; HelpURL: http://toolbox.xilinx.com/docsan/xilinx82/books/docs/s3asc/s3asc.pdf
pins: C (in), CE (in), D[7..0] (in), L (in), LEFT (in), Q[7..0] (out), R (in), SLI (in), SRI (in)

## SR16CE
designator U?
16-Bit Serial-In Parallel-Out Shift Register with Clock Enable and Asynchronous Clear; FPGAVendor: Xilinx; Published: 12-Jan-2007; Publisher: Altium Limited; HelpURL: http://toolbox.xilinx.com/docsan/xilinx82/books/docs/s3asc/s3asc.pdf
pins: C (in), CE (in), CLR (in), Q[15..0] (out), SLI (in)

## SR16CLE
designator U?
16-Bit Loadable Serial/Parallel-In Parallel-Out Shift Register with Clock Enable and Asynchronous Clear; FPGAVendor: Xilinx; Published: 12-Jan-2007; Publisher: Altium Limited; HelpURL: http://toolbox.xilinx.com/docsan/xilinx82/books/docs/s3asc/s3asc.pdf
pins: C (in), CE (in), CLR (in), D[15..0] (in), L (in), Q[15..0] (out), SLI (in)

## SR16CLED
designator U?
16-Bit Shift Register with Clock Enable and Asynchronous Clear; FPGAVendor: Xilinx; Published: 12-Jan-2007; Publisher: Altium Limited; HelpURL: http://toolbox.xilinx.com/docsan/xilinx82/books/docs/s3asc/s3asc.pdf
pins: C (in), CE (in), CLR (in), D[15..0] (in), L (in), LEFT (in), Q[15..0] (out), SLI (in), SRI (in)

## SR16RE
designator U?
16-Bit Serial-In Parallel-Out Shift Register with Clock Enable and Synchronous Reset; FPGAVendor: Xilinx; Published: 12-Jan-2007; Publisher: Altium Limited; HelpURL: http://toolbox.xilinx.com/docsan/xilinx82/books/docs/s3asc/s3asc.pdf
pins: C (in), CE (in), Q[15..0] (out), R (in), SLI (in)

## SR16RLE
designator U?
16-Bit Loadable Serial/Parallel-In Parallel-Out Shift Register with Clock Enable and Synchronous Reset; FPGAVendor: Xilinx; Published: 12-Jan-2007; Publisher: Altium Limited; HelpURL: http://toolbox.xilinx.com/docsan/xilinx82/books/docs/s3asc/s3asc.pdf
pins: C (in), CE (in), D[15..0] (in), L (in), Q[15..0] (out), R (in), SLI (in)

## SR16RLED
designator U?
16-Bit Shift Register with Clock Enable and Synchronous Reset; FPGAVendor: Xilinx; Published: 12-Jan-2007; Publisher: Altium Limited; HelpURL: http://toolbox.xilinx.com/docsan/xilinx82/books/docs/s3asc/s3asc.pdf
pins: C (in), CE (in), D[15..0] (in), L (in), LEFT (in), Q[15..0] (out), R (in), SLI (in), SRI (in)

## SRL16
designator U?
16-Bit Shift Register Look-Up-Table (LUT); FPGAVendor: Xilinx; Published: 12-Jan-2007; Publisher: Altium Limited; HelpURL: http://toolbox.xilinx.com/docsan/xilinx82/books/docs/s3asc/s3asc.pdf
pins: A0 (in), A1 (in), A2 (in), A3 (in), CLK (in), D (in), Q (out)

## SRL16_1
designator U?
16-Bit Shift Register Look-Up-Table (LUT) with Negative-Clock Edge; FPGAVendor: Xilinx; Published: 12-Jan-2007; Publisher: Altium Limited; HelpURL: http://toolbox.xilinx.com/docsan/xilinx82/books/docs/s3asc/s3asc.pdf
pins: A0 (in), A1 (in), A2 (in), A3 (in), CLK (in), D (in), Q (out)

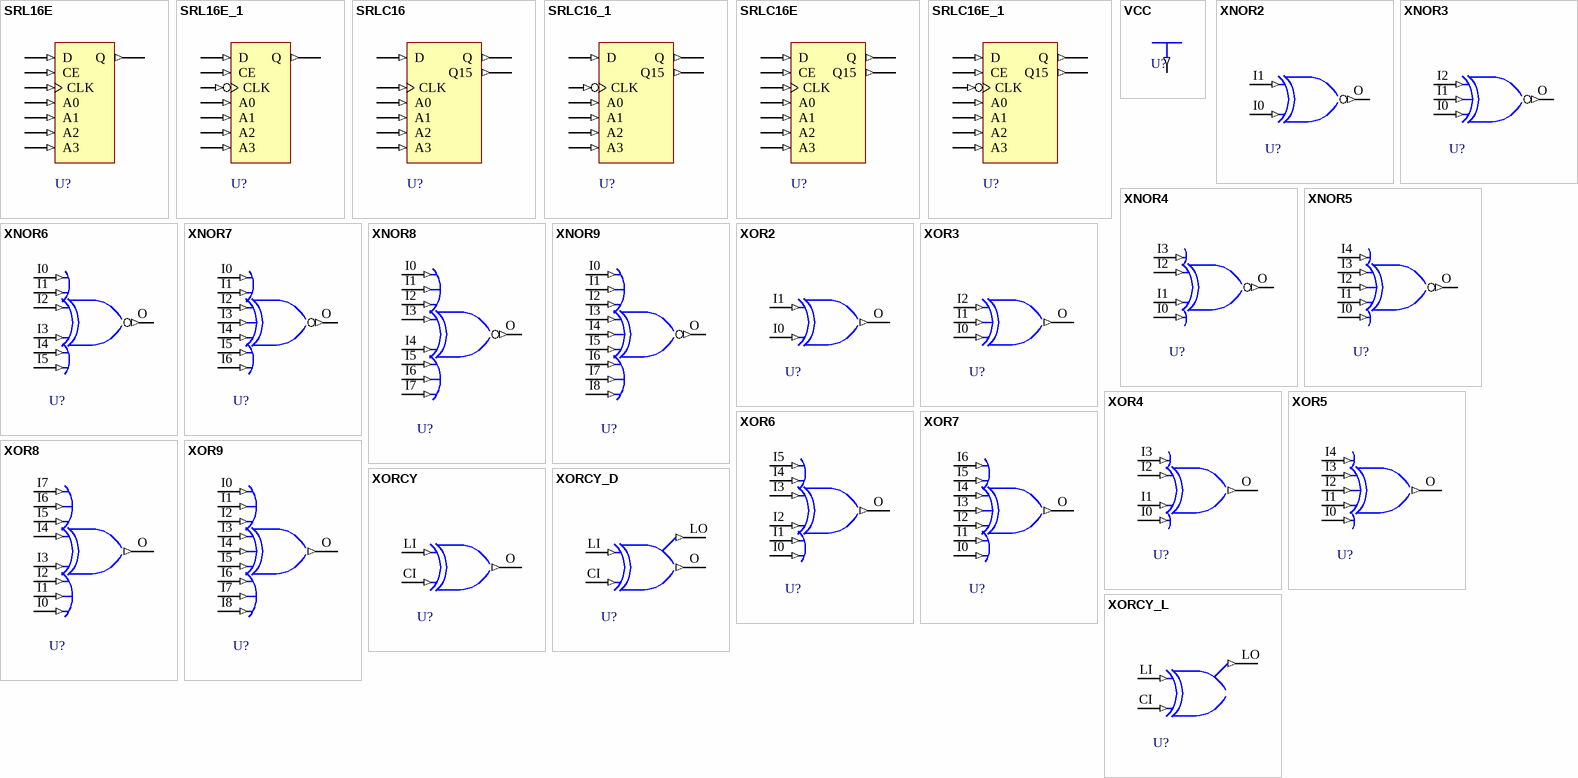
[diagram p11: symbols SRL16E to XORCY_L]

## SRL16E
designator U?
16-Bit Shift Register Look-Up-Table (LUT) with Clock Enable; FPGAVendor: Xilinx; Published: 12-Jan-2007; Publisher: Altium Limited; HelpURL: http://toolbox.xilinx.com/docsan/xilinx82/books/docs/s3asc/s3asc.pdf
pins: A0 (in), A1 (in), A2 (in), A3 (in), CE (in), CLK (in), D (in), Q (out)

## SRL16E_1
designator U?
16-Bit Shift Register Look-Up-Table (LUT) with Negative-Edge Clock and Clock Enable; FPGAVendor: Xilinx; Published: 12-Jan-2007; Publisher: Altium Limited; HelpURL: http://toolbox.xilinx.com/docsan/xilinx82/books/docs/s3asc/s3asc.pdf
pins: A0 (in), A1 (in), A2 (in), A3 (in), CE (in), CLK (in), D (in), Q (out)

## SRLC16
designator U?
16-Bit Shift Register Look-Up-Table (LUT) with Carry; FPGAVendor: Xilinx; Published: 12-Jan-2007; Publisher: Altium Limited; HelpURL: http://toolbox.xilinx.com/docsan/xilinx82/books/docs/s3asc/s3asc.pdf
pins: A0 (in), A1 (in), A2 (in), A3 (in), CLK (in), D (in), Q (out), Q15 (out)

## SRLC16_1
designator U?
16-Bit Shift Register Look-Up-Table (LUT) with Carry and Negative-Edge Clock; FPGAVendor: Xilinx; Published: 12-Jan-2007; Publisher: Altium Limited; HelpURL: http://toolbox.xilinx.com/docsan/xilinx82/books/docs/s3asc/s3asc.pdf
pins: A0 (in), A1 (in), A2 (in), A3 (in), CLK (in), D (in), Q (out), Q15 (out)

## SRLC16E
designator U?
16-Bit Shift Register Look-Up-Table (LUT) with Carry and Clock Enable; FPGAVendor: Xilinx; Published: 12-Jan-2007; Publisher: Altium Limited; HelpURL: http://toolbox.xilinx.com/docsan/xilinx82/books/docs/s3asc/s3asc.pdf
pins: A0 (in), A1 (in), A2 (in), A3 (in), CE (in), CLK (in), D (in), Q (out), Q15 (out)

## SRLC16E_1
designator U?
16-Bit Shift Register Look-Up-Table (LUT) with Carry, Negative-Edge Clock, and Clock Enable; FPGAVendor: Xilinx; Published: 12-Jan-2007; Publisher: Altium Limited; HelpURL: http://toolbox.xilinx.com/docsan/xilinx82/books/docs/s3asc/s3asc.pdf
pins: A0 (in), A1 (in), A2 (in), A3 (in), CE (in), CLK (in), D (in), Q (out), Q15 (out)

## VCC
designator U?
VCC-Connection Signal Tag; FPGAVendor: Xilinx; Published: 12-Jan-2007; Publisher: Altium Limited; HelpURL: http://toolbox.xilinx.com/docsan/xilinx82/books/docs/s3asc/s3asc.pdf
pins: P (out)

## XNOR2
designator U?
2-Input XNOR Gate; FPGAVendor: Xilinx; Published: 12-Jan-2007; Publisher: Altium Limited; HelpURL: http://toolbox.xilinx.com/docsan/xilinx82/books/docs/s3asc/s3asc.pdf
pins: I0 (in), I1 (in), O (out)

## XNOR3
designator U?
3-Input XNOR Gate; FPGAVendor: Xilinx; Published: 12-Jan-2007; Publisher: Altium Limited; HelpURL: http://toolbox.xilinx.com/docsan/xilinx82/books/docs/s3asc/s3asc.pdf
pins: I0 (in), I1 (in), I2 (in), O (out)

## XNOR4
designator U?
4-Input XNOR Gate; FPGAVendor: Xilinx; Published: 12-Jan-2007; Publisher: Altium Limited; HelpURL: http://toolbox.xilinx.com/docsan/xilinx82/books/docs/s3asc/s3asc.pdf
pins: I0 (in), I1 (in), I2 (in), I3 (in), O (out)

## XNOR5
designator U?
5-Input XNOR Gate; FPGAVendor: Xilinx; Published: 12-Jan-2007; Publisher: Altium Limited; HelpURL: http://toolbox.xilinx.com/docsan/xilinx82/books/docs/s3asc/s3asc.pdf
pins: I0 (in), I1 (in), I2 (in), I3 (in), I4 (in), O (out)

## XNOR6
designator U?
6-Input XNOR Gate; FPGAVendor: Xilinx; Published: 12-Jan-2007; Publisher: Altium Limited; HelpURL: http://toolbox.xilinx.com/docsan/xilinx82/books/docs/s3asc/s3asc.pdf
pins: I0 (in), I1 (in), I2 (in), I3 (in), I4 (in), I5 (in), O (out)

## XNOR7
designator U?
7-Input XNOR Gate; FPGAVendor: Xilinx; Published: 12-Jan-2007; Publisher: Altium Limited; HelpURL: http://toolbox.xilinx.com/docsan/xilinx82/books/docs/s3asc/s3asc.pdf
pins: I0 (in), I1 (in), I2 (in), I3 (in), I4 (in), I5 (in), I6 (in), O (out)

## XNOR8
designator U?
8-Input XNOR Gate; FPGAVendor: Xilinx; Published: 12-Jan-2007; Publisher: Altium Limited; HelpURL: http://toolbox.xilinx.com/docsan/xilinx82/books/docs/s3asc/s3asc.pdf
pins: I0 (in), I1 (in), I2 (in), I3 (in), I4 (in), I5 (in), I6 (in), I7 (in), O (out)

## XNOR9
designator U?
9-Input XNOR Gate; FPGAVendor: Xilinx; Published: 12-Jan-2007; Publisher: Altium Limited; HelpURL: http://toolbox.xilinx.com/docsan/xilinx82/books/docs/s3asc/s3asc.pdf
pins: I0 (in), I1 (in), I2 (in), I3 (in), I4 (in), I5 (in), I6 (in), I7 (in), I8 (in), O (out)

## XOR2
designator U?
2-Input XOR Gate; FPGAVendor: Xilinx; Published: 12-Jan-2007; Publisher: Altium Limited; HelpURL: http://toolbox.xilinx.com/docsan/xilinx82/books/docs/s3asc/s3asc.pdf
pins: I0 (in), I1 (in), O (out)

## XOR3
designator U?
3-Input XOR Gate; FPGAVendor: Xilinx; Published: 12-Jan-2007; Publisher: Altium Limited; HelpURL: http://toolbox.xilinx.com/docsan/xilinx82/books/docs/s3asc/s3asc.pdf
pins: I0 (in), I1 (in), I2 (in), O (out)

## XOR4
designator U?
4-Input XOR Gate; FPGAVendor: Xilinx; Published: 12-Jan-2007; Publisher: Altium Limited; HelpURL: http://toolbox.xilinx.com/docsan/xilinx82/books/docs/s3asc/s3asc.pdf
pins: I0 (in), I1 (in), I2 (in), I3 (in), O (out)

## XOR5
designator U?
5-Input XOR Gate; FPGAVendor: Xilinx; Published: 12-Jan-2007; Publisher: Altium Limited; HelpURL: http://toolbox.xilinx.com/docsan/xilinx82/books/docs/s3asc/s3asc.pdf
pins: I0 (in), I1 (in), I2 (in), I3 (in), I4 (in), O (out)

## XOR6
designator U?
6-Input XOR Gate; FPGAVendor: Xilinx; Published: 12-Jan-2007; Publisher: Altium Limited; HelpURL: http://toolbox.xilinx.com/docsan/xilinx82/books/docs/s3asc/s3asc.pdf
pins: I0 (in), I1 (in), I2 (in), I3 (in), I4 (in), I5 (in), O (out)

## XOR7
designator U?
7-Input XOR Gate; FPGAVendor: Xilinx; Published: 12-Jan-2007; Publisher: Altium Limited; HelpURL: http://toolbox.xilinx.com/docsan/xilinx82/books/docs/s3asc/s3asc.pdf
pins: I0 (in), I1 (in), I2 (in), I3 (in), I4 (in), I5 (in), I6 (in), O (out)

## XOR8
designator U?
8-Input XOR Gate; FPGAVendor: Xilinx; Published: 12-Jan-2007; Publisher: Altium Limited; HelpURL: http://toolbox.xilinx.com/docsan/xilinx82/books/docs/s3asc/s3asc.pdf
pins: I0 (in), I1 (in), I2 (in), I3 (in), I4 (in), I5 (in), I6 (in), I7 (in), O (out)

## XOR9
designator U?
9-Input XOR Gate; FPGAVendor: Xilinx; Published: 12-Jan-2007; Publisher: Altium Limited; HelpURL: http://toolbox.xilinx.com/docsan/xilinx82/books/docs/s3asc/s3asc.pdf
pins: I0 (in), I1 (in), I2 (in), I3 (in), I4 (in), I5 (in), I6 (in), I7 (in), I8 (in), O (out)

## XORCY
designator U?
2-Input XOR Gate for Carry Logic with General Output; FPGAVendor: Xilinx; Published: 12-Jan-2007; Publisher: Altium Limited; HelpURL: http://toolbox.xilinx.com/docsan/xilinx82/books/docs/s3asc/s3asc.pdf
pins: CI (in), LI (in), O (out)

## XORCY_D
designator U?
2-Input XOR Gate for Carry Logic with Dual Output; FPGAVendor: Xilinx; Published: 12-Jan-2007; Publisher: Altium Limited; HelpURL: http://toolbox.xilinx.com/docsan/xilinx82/books/docs/s3asc/s3asc.pdf
pins: CI (in), LI (in), LO (out), O (out)

## XORCY_L
designator U?
2-Input XOR Gate for Carry Logic with Local Output; FPGAVendor: Xilinx; Published: 12-Jan-2007; Publisher: Altium Limited; HelpURL: http://toolbox.xilinx.com/docsan/xilinx82/books/docs/s3asc/s3asc.pdf
pins: CI (in), LI (in), LO (out)